# EAGLE library part TPS2592(50/51/60/61) (library PP_PowerIC)
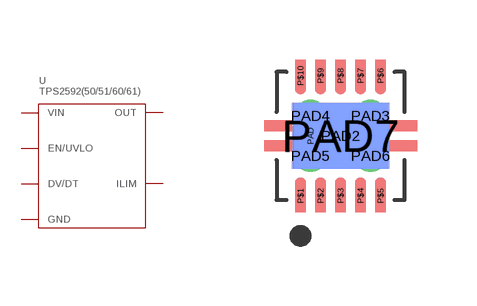
[diagram p10: symbol with the pads of TPS2592(50/51/60/61)_VSON-10; footprint TPS2592(50/51/60/61)_VSON-10]

Designator prefix U

## TPS2592(50/51/60/61)_VSON-10  [TPS2592(50/51/60/61)_VSON-10]
P$1  DV/DT
P$2  EN/UVLO
P$3  VIN
P$4  VIN
P$5  VIN
P$6  OUT
P$7  OUT
P$8  OUT
P$9  GND
P$10  ILIM
PAD  GND
PAD2  GND
PAD3  GND
PAD4  GND
PAD5  GND
PAD6  GND
PAD7  GND

## Footprint TPS2592(50/51/60/61)_VSON-10 (pad centres in mm)
smd 0.2 x 0.2: P$1 -1,-1.5; P$2 -0.5,-1.5; P$3 0,-1.5; P$4 0.5,-1.5; P$5 1,-1.5; P$6 1,1.5; P$7 0.5,1.5; P$8 0,1.5; P$9 -0.5,1.5; P$10 -1,1.5; PAD -0.75,0
drill 0.3 pad 0.3: PAD2 0,0; PAD3 0.75,0.5; PAD4 -0.75,0.5; PAD5 -0.75,-0.5; PAD6 0.75,-0.5
smd 2.4 x 1.65 bottom: PAD7 0,0